# EAGLE library part MAX31855 (library cTechnologies_integratedCircuits)
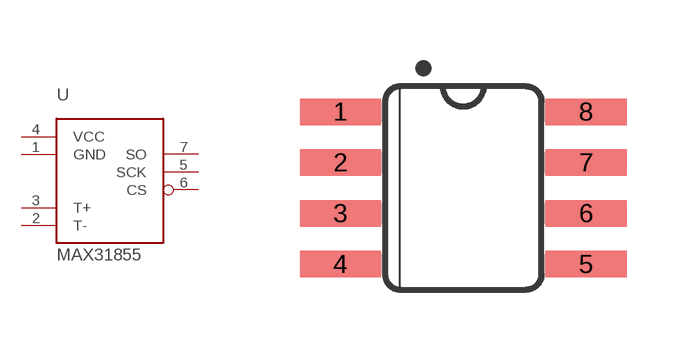
[diagram p5: symbol with the pads of SO08; footprint SO08]

Designator prefix U

## MAX31855, MAX31855JASA, MAX31855KASA+, MAX31855RASA  [SO08]
1  GND  sup
2  T-
3  T+
4  VCC  sup
5  SCK
6  CS
7  SO

## Footprint SO08 (pad centres in mm)
Small Outline Package SOIC 150 mil
smd 2.032 x 0.66: 1 -3.073,1.905; 2 -3.073,0.635; 3 -3.073,-0.635; 4 -3.073,-1.905; 5 3.073,-1.905; 6 3.073,-0.635; 7 3.073,0.635; 8 3.073,1.905